# Altium footprint library atmel.PCBLIB: 60 footprints (part 1 of 4)
Each footprint in its own frame and in the unit in brackets; x right, y up, seen from the top. Pads: shape width x height; smd on the part's side, far side on the other; paste and mask are expansions set on the pad; w line width, h text height; cw(c..) or ccw(c..) is an arc to the next point about the centre after c.
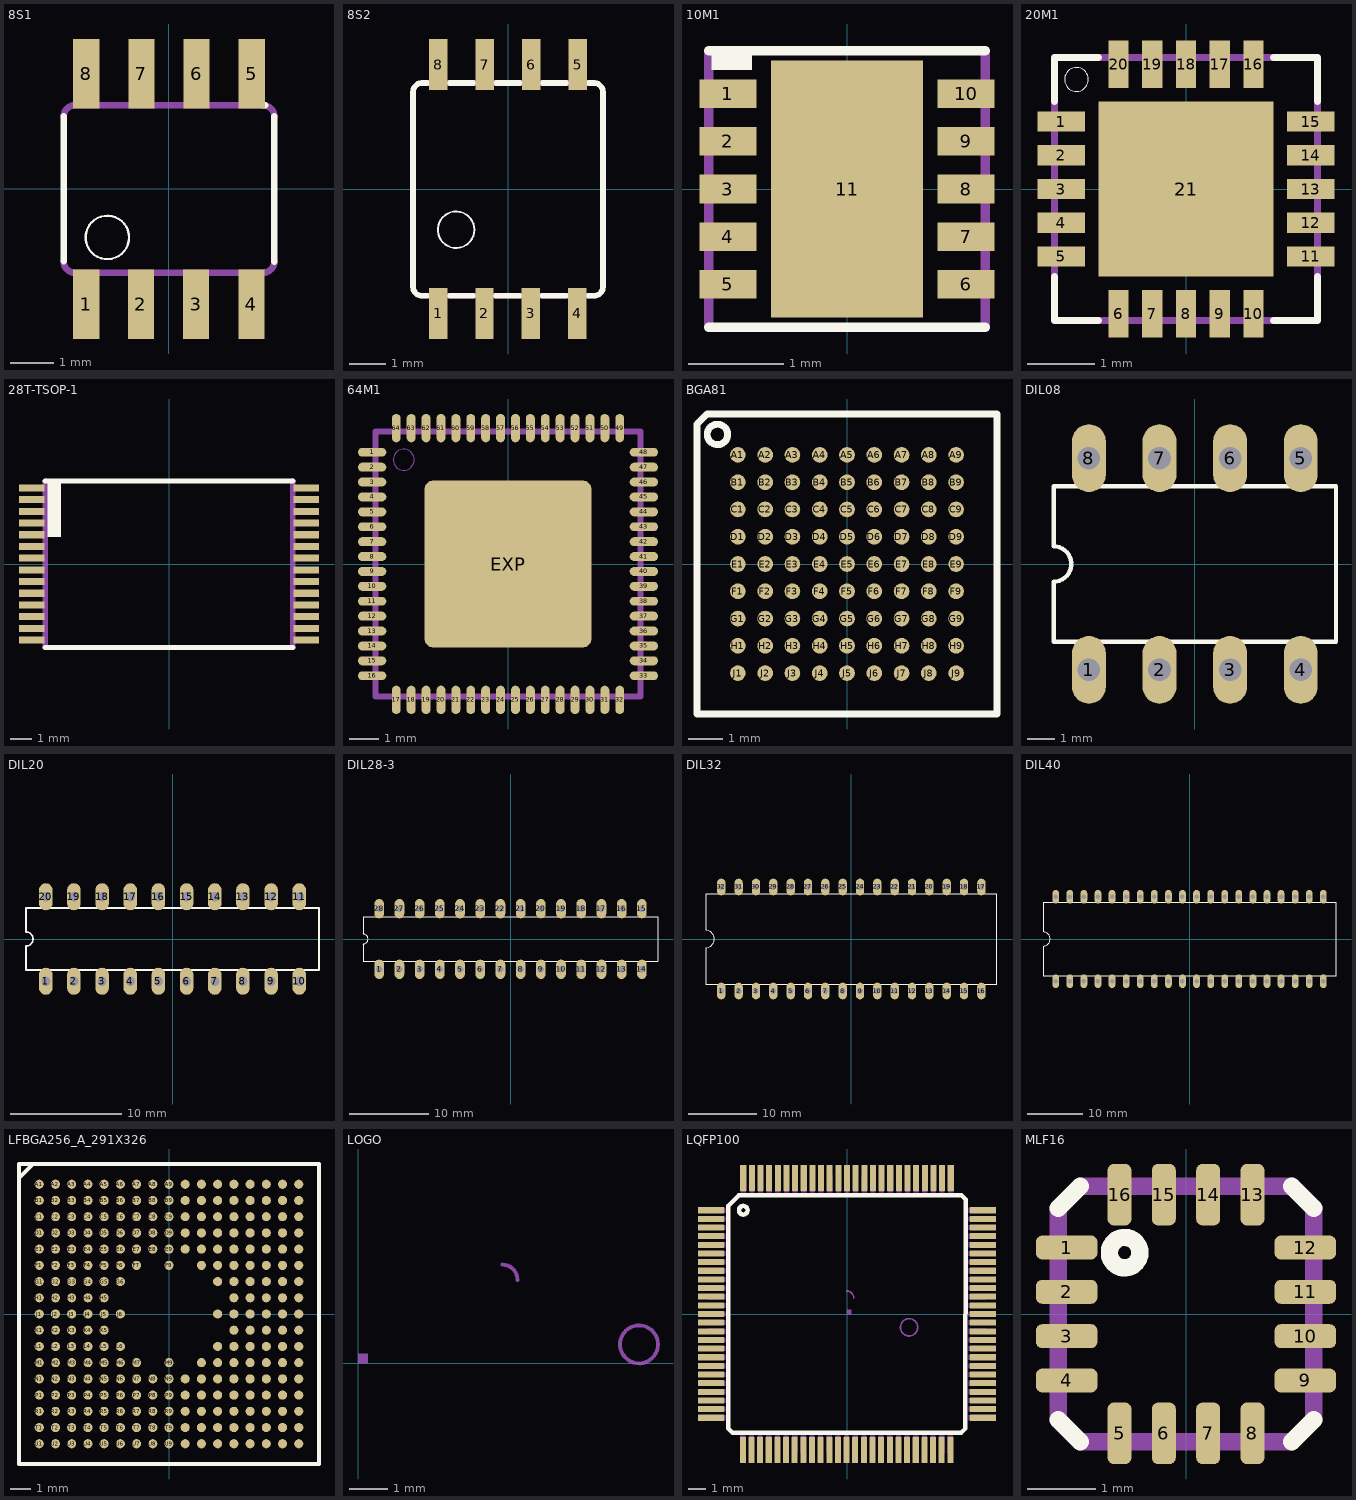
[diagram p0: the footprints below, top view; thin cyan lines are the x and y axes]

## 8S1 [mm]
pads (8):
  rect 0.6x1.6 smd: 1(-1.905,-2.654) 2(-0.645,-2.654) 3(0.625,-2.654) 4(1.895,-2.654) 5(1.905,2.654) 6(0.635,2.654) 7(-0.635,2.654) 8(-1.905,2.654)
Top Overlay:
  circle w0.051: c-1.42,-1.115 r0.5
  lines w0.152: -2.425,-1.665 -2.425,1.675 ; 2.185,1.925 2.21,1.925 ; 2.425,-1.675 2.425,1.675
Mechanical 16:
  rectangle: -2.08,1.975 -1.73,3.075
  rectangle: -0.81,1.975 -0.46,3.075
  rectangle: 0.46,1.975 0.81,3.075
  rectangle: 1.73,1.975 2.08,3.075
  rectangle: 1.72,-3.075 2.07,-1.975
  rectangle: 0.45,-3.075 0.8,-1.975
  rectangle: -0.82,-3.075 -0.47,-1.975
  rectangle: -2.08,-3.075 -1.73,-1.975
  lines w0.152: -2.425,-1.675 ccw(c-2.175,-1.675) -2.175,-1.925 ; -2.425,1.675 cw(c-2.175,1.675) -2.175,1.925 ; -2.165,-1.925 2.185,-1.925 ; -2.165,1.925 2.185,1.925 ; -1.59,1.925 -0.95,1.925 ; -0.33,-1.925 0.32,-1.925 ; 0.94,-1.925 1.59,-1.925 ; 0.95,1.925 1.59,1.925 ; 2.155,-1.925 2.185,-1.925 ; 2.175,-1.925 ccw(c2.175,-1.675) 2.425,-1.675 ; 2.175,1.925 cw(c2.175,1.675) 2.425,1.675 ; 2.2,-1.925 2.185,-1.925

## 8S2 [mm]
pads (8):
  rect 0.5x1.4 smd: 1(-1.905,-3.404) 2(-0.645,-3.404) 3(0.625,-3.404) 4(1.895,-3.404) 5(1.905,3.404) 6(0.635,3.404) 7(-0.635,3.404) 8(-1.905,3.404)
Top Overlay:
  circle w0.051: c-1.42,-1.115 r0.5
  lines w0.152: -2.6,-2.675 ccw(c-2.35,-2.675) -2.35,-2.925 ; -2.6,-2.665 -2.6,2.65 cw(c-2.35,2.65) -2.35,2.9 ; -2.34,-2.925 -2.21,-2.925 ; -2.34,2.9 -2.21,2.9 ; -1.59,-2.925 -0.95,-2.925 ; -1.59,2.9 -0.95,2.9 ; -0.33,-2.925 0.32,-2.925 ; -0.32,2.9 0.32,2.9 ; 0.94,-2.925 1.59,-2.925 ; 0.95,2.9 1.59,2.9 ; 2.2,-2.925 2.33,-2.925 ; 2.21,2.9 2.36,2.9 ; 2.35,-2.925 ccw(c2.35,-2.675) 2.6,-2.675 2.6,2.65 ccw(c2.35,2.65) 2.35,2.9
Mechanical 16:
  rectangle: -2.08,2.95 -1.73,3.85
  rectangle: -0.81,2.95 -0.46,3.85
  rectangle: 0.46,2.95 0.81,3.85
  rectangle: 1.73,2.95 2.08,3.85
  rectangle: 1.72,-3.85 2.07,-2.95
  rectangle: 0.45,-3.85 0.8,-2.95
  rectangle: -0.82,-3.85 -0.47,-2.95
  rectangle: -2.08,-3.85 -1.73,-2.95
  lines w0.152: -2.34,-2.925 2.36,-2.925 ; -2.34,2.9 2.36,2.9

## 10M1 [mm]
pads (11):
  rect 0.6x0.3 smd: 1(-1.25,1) 2(-1.25,0.5) 3(-1.25,0) 4(-1.25,-0.5) 5(-1.25,-1) 6(1.25,-1) 7(1.25,-0.5) 8(1.25,0) 9(1.25,0.5) 10(1.25,1)
  rect 1.6x2.7 smd: 11(0,0)
Top Overlay:
  rectangle: -1.425,1.25 -1,1.425
  lines w0.102: -1.45,-1.45 1.45,-1.45 ; -1.45,1.45 1.45,1.45
Top Paste:
  rectangle: -1.525,0.875 -0.975,1.125
  rectangle: -1.525,0.375 -0.975,0.625
  rectangle: -1.525,-0.125 -0.975,0.125
  rectangle: -1.525,-0.625 -0.975,-0.375
  rectangle: -1.525,-1.125 -0.975,-0.875
  region: 1.525,-0.875 0.975,-0.875 0.975,-1.125 1.525,-1.125
  region: 1.525,-0.375 0.975,-0.375 0.975,-0.625 1.525,-0.625
  region: 1.525,0.125 0.975,0.125 0.975,-0.125 1.525,-0.125
  region: 1.525,0.625 0.975,0.625 0.975,0.375 1.525,0.375
  region: 1.525,1.125 0.975,1.125 0.975,0.875 1.525,0.875
  region: 0,0 0.254,0 0.254,0.254 0,0.254
Top Solder:
  rectangle: -1.575,0.825 -0.925,1.175
  rectangle: -1.575,0.325 -0.925,0.675
  rectangle: -1.575,-0.175 -0.925,0.175
  rectangle: -1.575,-0.675 -0.925,-0.325
  rectangle: -1.575,-1.175 -0.925,-0.825
  region: 1.575,-0.825 0.925,-0.825 0.925,-1.175 1.575,-1.175
  region: 1.575,-0.325 0.925,-0.325 0.925,-0.675 1.575,-0.675
  region: 1.575,0.175 0.925,0.175 0.925,-0.175 1.575,-0.175
  region: 1.575,0.675 0.925,0.675 0.925,0.325 1.575,0.325
  region: 1.575,1.175 0.925,1.175 0.925,0.825 1.575,0.825
  region: 0,0 0.254,0 0.254,0.254 0,0.254
Mechanical 16:
  lines w0.102: -1.45,-1.45 -1.45,1.45 ; 1.45,-1.45 1.45,1.45

## 20M1 [mm]
pads (21):
  rect 0.7x0.3 smd: 1(-1.85,1) 2(-1.85,0.5) 3(-1.85,0) 4(-1.85,-0.5) 5(-1.85,-1) 11(1.85,-1) 12(1.85,-0.5) 13(1.85,0) 14(1.85,0.5) 15(1.85,1)
  rect 0.3x0.7 smd: 6(-1,-1.85) 7(-0.5,-1.85) 8(0,-1.85) 9(0.5,-1.85) 10(1,-1.85) 16(1,1.85) 17(0.5,1.85) 18(0,1.85) 19(-0.5,1.85) 20(-1,1.85)
  rect 2.6x2.6 smd: 21(0,0)
Top Overlay:
  circle w0: c-1.625,1.625 r0.177
  lines w0.102: -1.95,-1.3 -1.95,-1.95 -1.3,-1.95 ; -1.95,1.3 -1.95,1.95 -1.3,1.95 ; 1.3,-1.95 1.95,-1.95 1.95,-1.3 ; 1.3,1.95 1.95,1.95 1.95,1.3
Top Paste:
  rectangle: -2.175,0.875 -1.525,1.125
  rectangle: -2.175,0.375 -1.525,0.625
  rectangle: -2.175,-0.125 -1.525,0.125
  rectangle: -2.175,-0.625 -1.525,-0.375
  rectangle: -2.175,-1.125 -1.525,-0.875
  region: -0.875,-2.175 -0.875,-1.525 -1.125,-1.525 -1.125,-2.175
  region: -0.375,-2.175 -0.375,-1.525 -0.625,-1.525 -0.625,-2.175
  region: 0.125,-2.175 0.125,-1.525 -0.125,-1.525 -0.125,-2.175
  region: 0.625,-2.175 0.625,-1.525 0.375,-1.525 0.375,-2.175
  region: 1.125,-2.175 1.125,-1.525 0.875,-1.525 0.875,-2.175
  region: 2.175,-0.875 1.525,-0.875 1.525,-1.125 2.175,-1.125
  region: 2.175,-0.375 1.525,-0.375 1.525,-0.625 2.175,-0.625
  region: 2.175,0.125 1.525,0.125 1.525,-0.125 2.175,-0.125
  region: 2.175,0.625 1.525,0.625 1.525,0.375 2.175,0.375
  region: 2.175,1.125 1.525,1.125 1.525,0.875 2.175,0.875
  region: 0.875,2.175 0.875,1.525 1.125,1.525 1.125,2.175
  region: 0.375,2.175 0.375,1.525 0.625,1.525 0.625,2.175
  region: -0.125,2.175 -0.125,1.525 0.125,1.525 0.125,2.175
  region: -0.625,2.175 -0.625,1.525 -0.375,1.525 -0.375,2.175
  region: -1.125,2.175 -1.125,1.525 -0.875,1.525 -0.875,2.175
  rectangle: -1.125,-1.125 1.125,1.125
Top Solder:
  rectangle: -2.225,0.825 -1.475,1.175
  rectangle: -2.225,0.325 -1.475,0.675
  rectangle: -2.225,-0.175 -1.475,0.175
  rectangle: -2.225,-0.675 -1.475,-0.325
  rectangle: -2.225,-1.175 -1.475,-0.825
  region: -0.825,-2.225 -0.825,-1.475 -1.175,-1.475 -1.175,-2.225
  region: -0.325,-2.225 -0.325,-1.475 -0.675,-1.475 -0.675,-2.225
  region: 0.175,-2.225 0.175,-1.475 -0.175,-1.475 -0.175,-2.225
  region: 0.675,-2.225 0.675,-1.475 0.325,-1.475 0.325,-2.225
  region: 1.175,-2.225 1.175,-1.475 0.825,-1.475 0.825,-2.225
  region: 2.225,-0.825 1.475,-0.825 1.475,-1.175 2.225,-1.175
  region: 2.225,-0.325 1.475,-0.325 1.475,-0.675 2.225,-0.675
  region: 2.225,0.175 1.475,0.175 1.475,-0.175 2.225,-0.175
  region: 2.225,0.675 1.475,0.675 1.475,0.325 2.225,0.325
  region: 2.225,1.175 1.475,1.175 1.475,0.825 2.225,0.825
  region: 0.825,2.225 0.825,1.475 1.175,1.475 1.175,2.225
  region: 0.325,2.225 0.325,1.475 0.675,1.475 0.675,2.225
  region: -0.175,2.225 -0.175,1.475 0.175,1.475 0.175,2.225
  region: -0.675,2.225 -0.675,1.475 -0.325,1.475 -0.325,2.225
  region: -1.175,2.225 -1.175,1.475 -0.825,1.475 -0.825,2.225
  rectangle: -1.325,-1.325 1.325,1.325
Mechanical 16:
  lines w0.102: -1.95,-1.95 1.95,-1.95 1.95,1.95 -1.95,1.95 -1.95,-1.95

## 28T-TSOP-1 [mm]
pads (28):
  rect 1.2x0.33 smd: 1(-6.45,3.575) 2(-6.45,3.025) 3(-6.45,2.475) 4(-6.45,1.925) 5(-6.45,1.375) 6(-6.45,0.825) 7(-6.45,0.275) 8(-6.45,-0.275) 9(-6.45,-0.825) 10(-6.45,-1.375) 11(-6.45,-1.925) 12(-6.45,-2.475) 13(-6.45,-3.025) 14(-6.45,-3.575) 15(6.45,-3.575) 16(6.45,-3.025) 17(6.45,-2.475) 18(6.45,-1.925) 19(6.45,-1.375) 20(6.45,-0.825) 21(6.45,-0.275) 22(6.45,0.275) 23(6.45,0.825) 24(6.45,1.375) 25(6.45,1.925) 26(6.45,2.475) 27(6.45,3.025) 28(6.45,3.575)
Top Overlay:
  rectangle: -5.715,1.27 -5.08,3.81
  lines w0.254: -5.825,-3.925 5.825,-3.925 ; -5.825,3.9 5.825,3.9
Mechanical 16:
  rectangle: -6.8,3.45 -5.968,3.7
  rectangle: -6.8,2.9 -5.968,3.15
  rectangle: -6.8,2.35 -5.968,2.6
  rectangle: -6.8,1.8 -5.968,2.05
  rectangle: -6.8,1.25 -5.968,1.5
  rectangle: -6.8,0.7 -5.968,0.95
  rectangle: -6.8,0.15 -5.968,0.4
  rectangle: -6.8,-0.4 -5.968,-0.15
  rectangle: -6.8,-0.95 -5.968,-0.7
  rectangle: -6.8,-1.5 -5.968,-1.25
  rectangle: -6.8,-2.05 -5.968,-1.8
  rectangle: -6.8,-2.6 -5.968,-2.35
  rectangle: -6.8,-3.15 -5.968,-2.9
  rectangle: -6.8,-3.7 -5.968,-3.45
  region: 6.8,-3.45 5.968,-3.45 5.968,-3.7 6.8,-3.7
  region: 6.8,-2.9 5.968,-2.9 5.968,-3.15 6.8,-3.15
  region: 6.8,-2.35 5.968,-2.35 5.968,-2.6 6.8,-2.6
  region: 6.8,-1.8 5.968,-1.8 5.968,-2.05 6.8,-2.05
  region: 6.8,-1.25 5.968,-1.25 5.968,-1.5 6.8,-1.5
  region: 6.8,-0.7 5.968,-0.7 5.968,-0.95 6.8,-0.95
  region: 6.8,-0.15 5.968,-0.15 5.968,-0.4 6.8,-0.4
  region: 6.8,0.4 5.968,0.4 5.968,0.15 6.8,0.15
  region: 6.8,0.95 5.968,0.95 5.968,0.7 6.8,0.7
  region: 6.8,1.5 5.968,1.5 5.968,1.25 6.8,1.25
  region: 6.8,2.05 5.968,2.05 5.968,1.8 6.8,1.8
  region: 6.8,2.6 5.968,2.6 5.968,2.35 6.8,2.35
  region: 6.8,3.15 5.968,3.15 5.968,2.9 6.8,2.9
  region: 6.8,3.7 5.968,3.7 5.968,3.45 6.8,3.45
  lines w0.254: -5.825,-3.925 -5.825,3.9 ; 5.825,-3.925 5.825,3.9

## 64M1 [mm]
pads (65):
  rrect100% 0.95x0.3 smd: 1(-4.56,3.75) 2(-4.56,3.25) 3(-4.56,2.75) 4(-4.56,2.25) 5(-4.56,1.75) 6(-4.56,1.25) 7(-4.56,0.75) 8(-4.56,0.25) 9(-4.56,-0.25) 10(-4.56,-0.75) 11(-4.56,-1.25) 12(-4.56,-1.75) 13(-4.56,-2.25) 14(-4.56,-2.75) 15(-4.56,-3.25) 16(-4.56,-3.75) 33(4.56,-3.75) 34(4.56,-3.25) 35(4.56,-2.75) 36(4.56,-2.25) 37(4.56,-1.75) 38(4.56,-1.25) 39(4.56,-0.75) 40(4.56,-0.25) 41(4.56,0.25) 42(4.56,0.75) 43(4.56,1.25) 44(4.56,1.75) 45(4.56,2.25) 46(4.56,2.75) 47(4.56,3.25) 48(4.56,3.75)
  rrect100% 0.3x0.95 smd: 17(-3.75,-4.56) 18(-3.25,-4.56) 19(-2.75,-4.56) 20(-2.25,-4.56) 21(-1.75,-4.56) 22(-1.25,-4.56) 23(-0.75,-4.56) 24(-0.25,-4.56) 25(0.25,-4.56) 26(0.75,-4.56) 27(1.25,-4.56) 28(1.75,-4.56) 29(2.25,-4.56) 30(2.75,-4.56) 31(3.25,-4.56) 32(3.75,-4.56) 49(3.75,4.56) 50(3.25,4.56) 51(2.75,4.56) 52(2.25,4.56) 53(1.75,4.56) 54(1.25,4.56) 55(0.75,4.56) 56(0.25,4.56) 57(-0.25,4.56) 58(-0.75,4.56) 59(-1.25,4.56) 60(-1.75,4.56) 61(-2.25,4.56) 62(-2.75,4.56) 63(-3.25,4.56) 64(-3.75,4.56)
  rrect10% 5.6x5.6 smd: EXP(0,0)
Mechanical 16:
  circle w0: c-3.5,3.5 r0.354
  lines w0.203: -4.448,-4.448 4.448,-4.448 4.448,4.448 -4.448,4.448 -4.448,-4.448

## BGA81 [mm]
pads (81):
  rrect100% 0.46x0.46 smd: A1(-3.2,3.2) A2(-2.4,3.2) A3(-1.6,3.2) A4(-0.8,3.2) A5(0,3.2) A6(0.8,3.2) A7(1.6,3.2) A8(2.4,3.2) A9(3.2,3.2) B1(-3.2,2.4) B2(-2.4,2.4) B3(-1.6,2.4) B4(-0.8,2.4) B5(0,2.4) B6(0.8,2.4) B7(1.6,2.4) B8(2.4,2.4) B9(3.2,2.4) C1(-3.2,1.6) C2(-2.4,1.6) C3(-1.6,1.6) C4(-0.8,1.6) C5(0,1.6) C6(0.8,1.6) C7(1.6,1.6) C8(2.4,1.6) C9(3.2,1.6) D1(-3.2,0.8) D2(-2.4,0.8) D3(-1.6,0.8) D4(-0.8,0.8) D5(0,0.8) D6(0.8,0.8) D7(1.6,0.8) D8(2.4,0.8) D9(3.2,0.8) E1(-3.2,0) E2(-2.4,0) E3(-1.6,0) E4(-0.8,0) E5(0,0) E6(0.8,0) E7(1.6,0) E8(2.4,0) E9(3.2,0) F1(-3.2,-0.8) F2(-2.4,-0.8) F3(-1.6,-0.8) F4(-0.8,-0.8) F5(0,-0.8) F6(0.8,-0.8) F7(1.6,-0.8) F8(2.4,-0.8) F9(3.2,-0.8) G1(-3.2,-1.6) G2(-2.4,-1.6) G3(-1.6,-1.6) G4(-0.8,-1.6) G5(0,-1.6) G6(0.8,-1.6) G7(1.6,-1.6) G8(2.4,-1.6) G9(3.2,-1.6) H1(-3.2,-2.4) H2(-2.4,-2.4) H3(-1.6,-2.4) H4(-0.8,-2.4) H5(0,-2.4) H6(0.8,-2.4) H7(1.6,-2.4) H8(2.4,-2.4) H9(3.2,-2.4) J1(-3.2,-3.2) J2(-2.4,-3.2) J3(-1.6,-3.2) J4(-0.8,-3.2) J5(0,-3.2) J6(0.8,-3.2) J7(1.6,-3.2) J8(2.4,-3.2) J9(3.2,-3.2)
Top Overlay:
  circle w0.203: c-3.8,3.8 r0.3
  lines w0.203: -4.4,-4.4 4.4,-4.4 4.4,4.4 -4.1,4.4 -4.4,4.1 -4.4,-4.4

## DIL08 [mil]
pads (8):
  oval 48x96 hole 32: 1(-150,-150) 2(-50,-150) 3(50,-150) 4(150,-150) 5(150,150) 6(50,150) 7(-50,150) 8(-150,150)
Top Overlay:
  lines w6: -200,-110 -200,-25 ccw(c-200,0) -200,25 -200,110 200,110 200,-110 -200,-110

## DIL20 [mil]
pads (20):
  oval 48x96 hole 32: 1(-450,-150) 2(-350,-150) 3(-250,-150) 4(-150,-150) 5(-50,-150) 6(50,-150) 7(150,-150) 8(250,-150) 9(350,-150) 10(450,-150) 11(450,150) 12(350,150) 13(250,150) 14(150,150) 15(50,150) 16(-50,150) 17(-150,150) 18(-250,150) 19(-350,150) 20(-450,150)
Top Overlay:
  lines w6: -520,-110 -520,-25 ccw(c-520,0) -520,25 -520,110 520,110 520,-110 -520,-110

## DIL28-3 [mil]
pads (28):
  oval 48x96 hole 32: 1(-650,-150) 2(-550,-150) 3(-450,-150) 4(-350,-150) 5(-250,-150) 6(-150,-150) 7(-50,-150) 8(50,-150) 9(150,-150) 10(250,-150) 11(350,-150) 12(450,-150) 13(550,-150) 14(650,-150) 15(650,150) 16(550,150) 17(450,150) 18(350,150) 19(250,150) 20(150,150) 21(50,150) 22(-50,150) 23(-150,150) 24(-250,150) 25(-350,150) 26(-450,150) 27(-550,150) 28(-650,150)
Top Overlay:
  lines w6: -730,-110 -730,-25 ccw(c-730,0) -730,25 -730,110 730,110 730,-110 -730,-110

## DIL32 [mil]
pads (32):
  oval 48x96 hole 32: 1(-750,-300) 2(-650,-300) 3(-550,-300) 4(-450,-300) 5(-350,-300) 6(-250,-300) 7(-150,-300) 8(-50,-300) 9(50,-300) 10(150,-300) 11(250,-300) 12(350,-300) 13(450,-300) 14(550,-300) 15(650,-300) 16(750,-300) 17(750,300) 18(650,300) 19(550,300) 20(450,300) 21(350,300) 22(250,300) 23(150,300) 24(50,300) 25(-50,300) 26(-150,300) 27(-250,300) 28(-350,300) 29(-450,300) 30(-550,300) 31(-650,300) 32(-750,300)
Top Overlay:
  lines w6: -840,-260 -840,-50 ccw(c-840,0) -840,50 -840,260 840,260 840,-260 -840,-260

## DIL40 [mil]
pads (40):
  oval 48x96 hole 32: 1(-950,-300) 2(-850,-300) 3(-750,-300) 4(-650,-300) 5(-550,-300) 6(-450,-300) 7(-350,-300) 8(-250,-300) 9(-150,-300) 10(-50,-300) 11(50,-300) 12(150,-300) 13(250,-300) 14(350,-300) 15(450,-300) 16(550,-300) 17(650,-300) 18(750,-300) 19(850,-300) 20(950,-300) 21(950,300) 22(850,300) 23(750,300) 24(650,300) 25(550,300) 26(450,300) 27(350,300) 28(250,300) 29(150,300) 30(50,300) 31(-50,300) 32(-150,300) 33(-250,300) 34(-350,300) 35(-450,300) 36(-550,300) 37(-650,300) 38(-750,300) 39(-850,300) 40(-950,300)
Top Overlay:
  lines w6: -1040,-260 -1040,-50 ccw(c-1040,0) -1040,50 -1040,260 1040,260 1040,-260 -1040,-260

## LFBGA256_A_291X326 [mm]
pads (256):
  rrect100% 0.45x0.45 smd: A1(-6.4,6.4) A2(-5.6,6.4) A3(-4.8,6.4) A4(-4,6.4) A5(-3.2,6.4) A6(-2.4,6.4) A7(-1.6,6.4) A8(-0.8,6.4) A9(0,6.4) A10(0.8,6.4) A11(1.6,6.4) A12(2.4,6.4) A13(3.2,6.4) A14(4,6.4) A15(4.8,6.4) A16(5.6,6.4) A17(6.4,6.4) B1(-6.4,5.6) B2(-5.6,5.6) B3(-4.8,5.6) B4(-4,5.6) B5(-3.2,5.6) B6(-2.4,5.6) B7(-1.6,5.6) B8(-0.8,5.6) B9(0,5.6) B10(0.8,5.6) B11(1.6,5.6) B12(2.4,5.6) B13(3.2,5.6) B14(4,5.6) B15(4.8,5.6) B16(5.6,5.6) B17(6.4,5.6) C1(-6.4,4.8) C2(-5.6,4.8) C3(-4.8,4.8) C4(-4,4.8) C5(-3.2,4.8) C6(-2.4,4.8) C7(-1.6,4.8) C8(-0.8,4.8) C9(0,4.8) C10(0.8,4.8) C11(1.6,4.8) C12(2.4,4.8) C13(3.2,4.8) C14(4,4.8) C15(4.8,4.8) C16(5.6,4.8) C17(6.4,4.8) D1(-6.4,4) D2(-5.6,4) D3(-4.8,4) D4(-4,4) D5(-3.2,4) D6(-2.4,4) D7(-1.6,4) D8(-0.8,4) D9(0,4) D10(0.8,4) D11(1.6,4) D12(2.4,4) D13(3.2,4) D14(4,4) D15(4.8,4) D16(5.6,4) D17(6.4,4) E1(-6.4,3.2) E2(-5.6,3.2) E3(-4.8,3.2) E4(-4,3.2) E5(-3.2,3.2) E6(-2.4,3.2) E7(-1.6,3.2) E8(-0.8,3.2) E9(0,3.2) E10(0.8,3.2) E11(1.6,3.2) E12(2.4,3.2) E13(3.2,3.2) E14(4,3.2) E15(4.8,3.2) E16(5.6,3.2) E17(6.4,3.2) F1(-6.4,2.4) F2(-5.6,2.4) F3(-4.8,2.4) F4(-4,2.4) F5(-3.2,2.4) F6(-2.4,2.4) F7(-1.6,2.4) F9(0,2.4) F11(1.6,2.4) F12(2.4,2.4) F13(3.2,2.4) F14(4,2.4) F15(4.8,2.4) F16(5.6,2.4) F17(6.4,2.4) G1(-6.4,1.6) G2(-5.6,1.6) G3(-4.8,1.6) G4(-4,1.6) G5(-3.2,1.6) G6(-2.4,1.6) G12(2.4,1.6) G13(3.2,1.6) G14(4,1.6) G15(4.8,1.6) G16(5.6,1.6) G17(6.4,1.6) H1(-6.4,0.8) H2(-5.6,0.8) H3(-4.8,0.8) H4(-4,0.8) H5(-3.2,0.8) H13(3.2,0.8) H14(4,0.8) H15(4.8,0.8) H16(5.6,0.8) H17(6.4,0.8) J1(-6.4,0) J2(-5.6,0) J3(-4.8,0) J4(-4,0) J5(-3.2,0) J6(-2.4,0) J12(2.4,0) J13(3.2,0) J14(4,0) J15(4.8,0) J16(5.6,0) J17(6.4,0) K1(-6.4,-0.8) K2(-5.6,-0.8) K3(-4.8,-0.8) K4(-4,-0.8) K5(-3.2,-0.8) K13(3.2,-0.8) K14(4,-0.8) K15(4.8,-0.8) K16(5.6,-0.8) K17(6.4,-0.8) L1(-6.4,-1.6) L2(-5.6,-1.6) L3(-4.8,-1.6) L4(-4,-1.6) L5(-3.2,-1.6) L6(-2.4,-1.6) L12(2.4,-1.6) L13(3.2,-1.6) L14(4,-1.6) L15(4.8,-1.6) L16(5.6,-1.6) L17(6.4,-1.6) M1(-6.4,-2.4) M2(-5.6,-2.4) M3(-4.8,-2.4) M4(-4,-2.4) M5(-3.2,-2.4) M6(-2.4,-2.4) M7(-1.6,-2.4) M9(0,-2.4) M11(1.6,-2.4) M12(2.4,-2.4) M13(3.2,-2.4) M14(4,-2.4) M15(4.8,-2.4) M16(5.6,-2.4) M17(6.4,-2.4) N1(-6.4,-3.2) N2(-5.6,-3.2) N3(-4.8,-3.2) N4(-4,-3.2) N5(-3.2,-3.2) N6(-2.4,-3.2) N7(-1.6,-3.2) N8(-0.8,-3.2) N9(0,-3.2) N10(0.8,-3.2) N11(1.6,-3.2) N12(2.4,-3.2) N13(3.2,-3.2) N14(4,-3.2) N15(4.8,-3.2) N16(5.6,-3.2) N17(6.4,-3.2) P1(-6.4,-4) P2(-5.6,-4) P3(-4.8,-4) P4(-4,-4) P5(-3.2,-4) P6(-2.4,-4) P7(-1.6,-4) P8(-0.8,-4) P9(0,-4) P10(0.8,-4) P11(1.6,-4) P12(2.4,-4) P13(3.2,-4) P14(4,-4) P15(4.8,-4) P16(5.6,-4) P17(6.4,-4) R1(-6.4,-4.8) R2(-5.6,-4.8) R3(-4.8,-4.8) R4(-4,-4.8) R5(-3.2,-4.8) R6(-2.4,-4.8) R7(-1.6,-4.8) R8(-0.8,-4.8) R9(0,-4.8) R10(0.8,-4.8) R11(1.6,-4.8) R12(2.4,-4.8) R13(3.2,-4.8) R14(4,-4.8) R15(4.8,-4.8) R16(5.6,-4.8) R17(6.4,-4.8) T1(-6.4,-5.6) T2(-5.6,-5.6) T3(-4.8,-5.6) T4(-4,-5.6) T5(-3.2,-5.6) T6(-2.4,-5.6) T7(-1.6,-5.6) T8(-0.8,-5.6) T9(0,-5.6) T10(0.8,-5.6) T11(1.6,-5.6) T12(2.4,-5.6) T13(3.2,-5.6) T14(4,-5.6) T15(4.8,-5.6) T16(5.6,-5.6) T17(6.4,-5.6) U1(-6.4,-6.4) U2(-5.6,-6.4) U3(-4.8,-6.4) U4(-4,-6.4) U5(-3.2,-6.4) U6(-2.4,-6.4) U7(-1.6,-6.4) U8(-0.8,-6.4) U9(0,-6.4) U10(0.8,-6.4) U11(1.6,-6.4) U12(2.4,-6.4) U13(3.2,-6.4) U14(4,-6.4) U15(4.8,-6.4) U16(5.6,-6.4) U17(6.4,-6.4)
Top Overlay:
  lines w0.203: -7.399,6.7 -7.399,7.399 -6.7,7.399 ; -7.399,6.7 -7.399,-7.399 7.399,-7.399 7.399,7.399 -6.7,7.399 ; -7.399,6.7 -6.7,7.399
Top Solder:
  drawing of 256 lines, arcs and shapes, not listed

## LOGO [mm]
Mechanical 16:
  circle w0.102: c7.4,0.5 r0.5
  region: 0,0 0.254,0 0.254,0.254 0,0.254
  region: 0,0 0.254,0 0.254,0.254 0,0.254
  region: 0,0 0.254,0 0.254,0.254 0,0.254
  region: 0,0 0.254,0 0.254,0.254 0,0.254
  region: 0,0 0.254,0 0.254,0.254 0,0.254
  region: 0,0 0.254,0 0.254,0.254 0,0.254
  lines w0.102: 3.8,2.6 cw(c3.8,2.2) 4.2,2.2
  text "R" at 7.2,0.2 h0.94

## LQFP100 [mm]
pads (100):
  rect 1.5x0.35 smd: 1(-7.875,6) 2(-7.875,5.5) 3(-7.875,5) 4(-7.875,4.5) 5(-7.875,4) 6(-7.875,3.5) 7(-7.875,3) 8(-7.875,2.5) 9(-7.875,2) 10(-7.875,1.5) 11(-7.875,1) 12(-7.875,0.5) 13(-7.875,0) 14(-7.875,-0.5) 15(-7.875,-1) 16(-7.875,-1.5) 17(-7.875,-2) 18(-7.875,-2.5) 19(-7.875,-3) 20(-7.875,-3.5) 21(-7.875,-4) 22(-7.875,-4.5) 23(-7.875,-5) 24(-7.875,-5.5) 25(-7.875,-6) 51(7.875,-6) 52(7.875,-5.5) 53(7.875,-5) 54(7.875,-4.5) 55(7.875,-4) 56(7.875,-3.5) 57(7.875,-3) 58(7.875,-2.5) 59(7.875,-2) 60(7.875,-1.5) 61(7.875,-1) 62(7.875,-0.5) 63(7.875,0) 64(7.875,0.5) 65(7.875,1) 66(7.875,1.5) 67(7.875,2) 68(7.875,2.5) 69(7.875,3) 70(7.875,3.5) 71(7.875,4) 72(7.875,4.5) 73(7.875,5) 74(7.875,5.5) 75(7.875,6)
  rect 0.35x1.5 smd: 26(-6.025,-7.875) 27(-5.525,-7.875) 28(-5.025,-7.875) 29(-4.525,-7.875) 30(-4.025,-7.875) 31(-3.525,-7.875) 32(-3.025,-7.875) 33(-2.525,-7.875) 34(-2.025,-7.875) 35(-1.525,-7.875) 36(-1.025,-7.875) 37(-0.525,-7.875) 38(-0.025,-7.875) 39(0.475,-7.875) 40(0.975,-7.875) 41(1.475,-7.875) 42(1.975,-7.875) 43(2.475,-7.875) 44(2.975,-7.875) 45(3.475,-7.875) 46(3.975,-7.875) 47(4.475,-7.875) 48(4.975,-7.875) 49(5.475,-7.875) 50(5.975,-7.875) 76(6,7.875) 77(5.5,7.875) 78(5,7.875) 79(4.5,7.875) 80(4,7.875) 81(3.5,7.875) 82(3,7.875) 83(2.5,7.875) 84(2,7.875) 85(1.5,7.875) 86(1,7.875) 87(0.5,7.875) 88(0,7.875) 89(-0.5,7.875) 90(-1,7.875) 91(-1.5,7.875) 92(-2,7.875) 93(-2.5,7.875) 94(-3,7.875) 95(-3.5,7.875) 96(-4,7.875) 97(-4.5,7.875) 98(-5,7.875) 99(-5.5,7.875) 100(-6,7.875)
Top Overlay:
  circle w0.254: c-6,6 r0.25
  lines w0.254: -6.875,-6.625 -6.625,-6.875 6.6,-6.875 6.85,-6.625 6.875,6.625 6.625,6.875 -6.25,6.875 -6.875,6.25 -6.875,-6.625
Top Paste:
  rectangle: -8.6,5.85 -7.15,6.15
  rectangle: -8.6,5.35 -7.15,5.65
  rectangle: -8.6,4.85 -7.15,5.15
  rectangle: -8.6,4.35 -7.15,4.65
  rectangle: -8.6,3.85 -7.15,4.15
  rectangle: -8.6,3.35 -7.15,3.65
  rectangle: -8.6,2.85 -7.15,3.15
  rectangle: -8.6,2.35 -7.15,2.65
  rectangle: -8.6,1.85 -7.15,2.15
  rectangle: -8.6,1.35 -7.15,1.65
  rectangle: -8.6,0.85 -7.15,1.15
  rectangle: -8.6,0.35 -7.15,0.65
  rectangle: -8.6,-0.15 -7.15,0.15
  rectangle: -8.6,-0.65 -7.15,-0.35
  rectangle: -8.6,-1.15 -7.15,-0.85
  rectangle: -8.6,-1.65 -7.15,-1.35
  rectangle: -8.6,-2.15 -7.15,-1.85
  rectangle: -8.6,-2.65 -7.15,-2.35
  rectangle: -8.6,-3.15 -7.15,-2.85
  rectangle: -8.6,-3.65 -7.15,-3.35
  rectangle: -8.6,-4.15 -7.15,-3.85
  rectangle: -8.6,-4.65 -7.15,-4.35
  rectangle: -8.6,-5.15 -7.15,-4.85
  rectangle: -8.6,-5.65 -7.15,-5.35
  rectangle: -8.6,-6.15 -7.15,-5.85
  region: -5.85,-8.6 -5.85,-7.15 -6.15,-7.15 -6.15,-8.6
  region: -5.35,-8.6 -5.35,-7.15 -5.65,-7.15 -5.65,-8.6
  region: -4.85,-8.6 -4.85,-7.15 -5.15,-7.15 -5.15,-8.6
  region: -4.35,-8.6 -4.35,-7.15 -4.65,-7.15 -4.65,-8.6
  region: -3.85,-8.6 -3.85,-7.15 -4.15,-7.15 -4.15,-8.6
  region: -3.35,-8.6 -3.35,-7.15 -3.65,-7.15 -3.65,-8.6
  region: -2.85,-8.6 -2.85,-7.15 -3.15,-7.15 -3.15,-8.6
  region: -2.35,-8.6 -2.35,-7.15 -2.65,-7.15 -2.65,-8.6
  region: -1.85,-8.6 -1.85,-7.15 -2.15,-7.15 -2.15,-8.6
  region: -1.35,-8.6 -1.35,-7.15 -1.65,-7.15 -1.65,-8.6
  region: -0.85,-8.6 -0.85,-7.15 -1.15,-7.15 -1.15,-8.6
  region: -0.35,-8.6 -0.35,-7.15 -0.65,-7.15 -0.65,-8.6
  region: 0.15,-8.6 0.15,-7.15 -0.15,-7.15 -0.15,-8.6
  region: 0.65,-8.6 0.65,-7.15 0.35,-7.15 0.35,-8.6
  region: 1.15,-8.6 1.15,-7.15 0.85,-7.15 0.85,-8.6
  region: 1.65,-8.6 1.65,-7.15 1.35,-7.15 1.35,-8.6
  region: 2.15,-8.6 2.15,-7.15 1.85,-7.15 1.85,-8.6
  region: 2.65,-8.6 2.65,-7.15 2.35,-7.15 2.35,-8.6
  region: 3.15,-8.6 3.15,-7.15 2.85,-7.15 2.85,-8.6
  region: 3.65,-8.6 3.65,-7.15 3.35,-7.15 3.35,-8.6
  region: 4.15,-8.6 4.15,-7.15 3.85,-7.15 3.85,-8.6
  region: 4.65,-8.6 4.65,-7.15 4.35,-7.15 4.35,-8.6
  region: 5.15,-8.6 5.15,-7.15 4.85,-7.15 4.85,-8.6
  region: 5.65,-8.6 5.65,-7.15 5.35,-7.15 5.35,-8.6
  region: 6.15,-8.6 6.15,-7.15 5.85,-7.15 5.85,-8.6
  region: 8.6,-5.85 7.15,-5.85 7.15,-6.15 8.6,-6.15
  region: 8.6,-5.35 7.15,-5.35 7.15,-5.65 8.6,-5.65
  region: 8.6,-4.85 7.15,-4.85 7.15,-5.15 8.6,-5.15
  region: 8.6,-4.35 7.15,-4.35 7.15,-4.65 8.6,-4.65
  region: 8.6,-3.85 7.15,-3.85 7.15,-4.15 8.6,-4.15
  region: 8.6,-3.35 7.15,-3.35 7.15,-3.65 8.6,-3.65
  region: 8.6,-2.85 7.15,-2.85 7.15,-3.15 8.6,-3.15
  region: 8.6,-2.35 7.15,-2.35 7.15,-2.65 8.6,-2.65
  region: 8.6,-1.85 7.15,-1.85 7.15,-2.15 8.6,-2.15
  region: 8.6,-1.35 7.15,-1.35 7.15,-1.65 8.6,-1.65
  region: 8.6,-0.85 7.15,-0.85 7.15,-1.15 8.6,-1.15
  region: 8.6,-0.35 7.15,-0.35 7.15,-0.65 8.6,-0.65
  region: 8.6,0.15 7.15,0.15 7.15,-0.15 8.6,-0.15
  region: 8.6,0.65 7.15,0.65 7.15,0.35 8.6,0.35
  region: 8.6,1.15 7.15,1.15 7.15,0.85 8.6,0.85
  region: 8.6,1.65 7.15,1.65 7.15,1.35 8.6,1.35
  region: 8.6,2.15 7.15,2.15 7.15,1.85 8.6,1.85
  region: 8.6,2.65 7.15,2.65 7.15,2.35 8.6,2.35
  region: 8.6,3.15 7.15,3.15 7.15,2.85 8.6,2.85
  region: 8.6,3.65 7.15,3.65 7.15,3.35 8.6,3.35
  region: 8.6,4.15 7.15,4.15 7.15,3.85 8.6,3.85
  region: 8.6,4.65 7.15,4.65 7.15,4.35 8.6,4.35
  region: 8.6,5.15 7.15,5.15 7.15,4.85 8.6,4.85
  region: 8.6,5.65 7.15,5.65 7.15,5.35 8.6,5.35
  region: 8.6,6.15 7.15,6.15 7.15,5.85 8.6,5.85
  region: 5.85,8.6 5.85,7.15 6.15,7.15 6.15,8.6
  region: 5.35,8.6 5.35,7.15 5.65,7.15 5.65,8.6
  region: 4.85,8.6 4.85,7.15 5.15,7.15 5.15,8.6
  region: 4.35,8.6 4.35,7.15 4.65,7.15 4.65,8.6
  region: 3.85,8.6 3.85,7.15 4.15,7.15 4.15,8.6
  region: 3.35,8.6 3.35,7.15 3.65,7.15 3.65,8.6
  region: 2.85,8.6 2.85,7.15 3.15,7.15 3.15,8.6
  region: 2.35,8.6 2.35,7.15 2.65,7.15 2.65,8.6
  region: 1.85,8.6 1.85,7.15 2.15,7.15 2.15,8.6
  region: 1.35,8.6 1.35,7.15 1.65,7.15 1.65,8.6
  region: 0.85,8.6 0.85,7.15 1.15,7.15 1.15,8.6
  region: 0.35,8.6 0.35,7.15 0.65,7.15 0.65,8.6
  region: -0.15,8.6 -0.15,7.15 0.15,7.15 0.15,8.6
  region: -0.65,8.6 -0.65,7.15 -0.35,7.15 -0.35,8.6
  region: -1.15,8.6 -1.15,7.15 -0.85,7.15 -0.85,8.6
  region: -1.65,8.6 -1.65,7.15 -1.35,7.15 -1.35,8.6
  region: -2.15,8.6 -2.15,7.15 -1.85,7.15 -1.85,8.6
  region: -2.65,8.6 -2.65,7.15 -2.35,7.15 -2.35,8.6
  region: -3.15,8.6 -3.15,7.15 -2.85,7.15 -2.85,8.6
  region: -3.65,8.6 -3.65,7.15 -3.35,7.15 -3.35,8.6
  region: -4.15,8.6 -4.15,7.15 -3.85,7.15 -3.85,8.6
  region: -4.65,8.6 -4.65,7.15 -4.35,7.15 -4.35,8.6
  region: -5.15,8.6 -5.15,7.15 -4.85,7.15 -4.85,8.6
  region: -5.65,8.6 -5.65,7.15 -5.35,7.15 -5.35,8.6
  region: -6.15,8.6 -6.15,7.15 -5.85,7.15 -5.85,8.6
Top Solder:
  rectangle: -8.675,5.8 -7.075,6.2
  rectangle: -8.675,5.3 -7.075,5.7
  rectangle: -8.675,4.8 -7.075,5.2
  rectangle: -8.675,4.3 -7.075,4.7
  rectangle: -8.675,3.8 -7.075,4.2
  rectangle: -8.675,3.3 -7.075,3.7
  rectangle: -8.675,2.8 -7.075,3.2
  rectangle: -8.675,2.3 -7.075,2.7
  rectangle: -8.675,1.8 -7.075,2.2
  rectangle: -8.675,1.3 -7.075,1.7
  rectangle: -8.675,0.8 -7.075,1.2
  rectangle: -8.675,0.3 -7.075,0.7
  rectangle: -8.675,-0.2 -7.075,0.2
  rectangle: -8.675,-0.7 -7.075,-0.3
  rectangle: -8.675,-1.2 -7.075,-0.8
  rectangle: -8.675,-1.7 -7.075,-1.3
  rectangle: -8.675,-2.2 -7.075,-1.8
  rectangle: -8.675,-2.7 -7.075,-2.3
  rectangle: -8.675,-3.2 -7.075,-2.8
  rectangle: -8.675,-3.7 -7.075,-3.3
  rectangle: -8.675,-4.2 -7.075,-3.8
  rectangle: -8.675,-4.7 -7.075,-4.3
  rectangle: -8.675,-5.2 -7.075,-4.8
  rectangle: -8.675,-5.7 -7.075,-5.3
  rectangle: -8.675,-6.2 -7.075,-5.8
  region: -5.8,-8.675 -5.8,-7.075 -6.2,-7.075 -6.2,-8.675
  region: -5.3,-8.675 -5.3,-7.075 -5.7,-7.075 -5.7,-8.675
  region: -4.8,-8.675 -4.8,-7.075 -5.2,-7.075 -5.2,-8.675
  region: -4.3,-8.675 -4.3,-7.075 -4.7,-7.075 -4.7,-8.675
  region: -3.8,-8.675 -3.8,-7.075 -4.2,-7.075 -4.2,-8.675
  region: -3.3,-8.675 -3.3,-7.075 -3.7,-7.075 -3.7,-8.675
  region: -2.8,-8.675 -2.8,-7.075 -3.2,-7.075 -3.2,-8.675
  region: -2.3,-8.675 -2.3,-7.075 -2.7,-7.075 -2.7,-8.675
  region: -1.8,-8.675 -1.8,-7.075 -2.2,-7.075 -2.2,-8.675
  region: -1.3,-8.675 -1.3,-7.075 -1.7,-7.075 -1.7,-8.675
  region: -0.8,-8.675 -0.8,-7.075 -1.2,-7.075 -1.2,-8.675
  region: -0.3,-8.675 -0.3,-7.075 -0.7,-7.075 -0.7,-8.675
  region: 0.2,-8.675 0.2,-7.075 -0.2,-7.075 -0.2,-8.675
  region: 0.7,-8.675 0.7,-7.075 0.3,-7.075 0.3,-8.675
  region: 1.2,-8.675 1.2,-7.075 0.8,-7.075 0.8,-8.675
  region: 1.7,-8.675 1.7,-7.075 1.3,-7.075 1.3,-8.675
  region: 2.2,-8.675 2.2,-7.075 1.8,-7.075 1.8,-8.675
  region: 2.7,-8.675 2.7,-7.075 2.3,-7.075 2.3,-8.675
  region: 3.2,-8.675 3.2,-7.075 2.8,-7.075 2.8,-8.675
  region: 3.7,-8.675 3.7,-7.075 3.3,-7.075 3.3,-8.675
  region: 4.2,-8.675 4.2,-7.075 3.8,-7.075 3.8,-8.675
  region: 4.7,-8.675 4.7,-7.075 4.3,-7.075 4.3,-8.675
  region: 5.2,-8.675 5.2,-7.075 4.8,-7.075 4.8,-8.675
  region: 5.7,-8.675 5.7,-7.075 5.3,-7.075 5.3,-8.675
  region: 6.2,-8.675 6.2,-7.075 5.8,-7.075 5.8,-8.675
  region: 8.675,-5.8 7.075,-5.8 7.075,-6.2 8.675,-6.2
  region: 8.675,-5.3 7.075,-5.3 7.075,-5.7 8.675,-5.7
  region: 8.675,-4.8 7.075,-4.8 7.075,-5.2 8.675,-5.2
  region: 8.675,-4.3 7.075,-4.3 7.075,-4.7 8.675,-4.7
  region: 8.675,-3.8 7.075,-3.8 7.075,-4.2 8.675,-4.2
  region: 8.675,-3.3 7.075,-3.3 7.075,-3.7 8.675,-3.7
  region: 8.675,-2.8 7.075,-2.8 7.075,-3.2 8.675,-3.2
  region: 8.675,-2.3 7.075,-2.3 7.075,-2.7 8.675,-2.7
  region: 8.675,-1.8 7.075,-1.8 7.075,-2.2 8.675,-2.2
  region: 8.675,-1.3 7.075,-1.3 7.075,-1.7 8.675,-1.7
  region: 8.675,-0.8 7.075,-0.8 7.075,-1.2 8.675,-1.2
  region: 8.675,-0.3 7.075,-0.3 7.075,-0.7 8.675,-0.7
  region: 8.675,0.2 7.075,0.2 7.075,-0.2 8.675,-0.2
  region: 8.675,0.7 7.075,0.7 7.075,0.3 8.675,0.3
  region: 8.675,1.2 7.075,1.2 7.075,0.8 8.675,0.8
  region: 8.675,1.7 7.075,1.7 7.075,1.3 8.675,1.3
  region: 8.675,2.2 7.075,2.2 7.075,1.8 8.675,1.8
  region: 8.675,2.7 7.075,2.7 7.075,2.3 8.675,2.3
  region: 8.675,3.2 7.075,3.2 7.075,2.8 8.675,2.8
  region: 8.675,3.7 7.075,3.7 7.075,3.3 8.675,3.3
  region: 8.675,4.2 7.075,4.2 7.075,3.8 8.675,3.8
  region: 8.675,4.7 7.075,4.7 7.075,4.3 8.675,4.3
  region: 8.675,5.2 7.075,5.2 7.075,4.8 8.675,4.8
  region: 8.675,5.7 7.075,5.7 7.075,5.3 8.675,5.3
  region: 8.675,6.2 7.075,6.2 7.075,5.8 8.675,5.8
  region: 5.8,8.675 5.8,7.075 6.2,7.075 6.2,8.675
  region: 5.3,8.675 5.3,7.075 5.7,7.075 5.7,8.675
  region: 4.8,8.675 4.8,7.075 5.2,7.075 5.2,8.675
  region: 4.3,8.675 4.3,7.075 4.7,7.075 4.7,8.675
  region: 3.8,8.675 3.8,7.075 4.2,7.075 4.2,8.675
  region: 3.3,8.675 3.3,7.075 3.7,7.075 3.7,8.675
  region: 2.8,8.675 2.8,7.075 3.2,7.075 3.2,8.675
  region: 2.3,8.675 2.3,7.075 2.7,7.075 2.7,8.675
  region: 1.8,8.675 1.8,7.075 2.2,7.075 2.2,8.675
  region: 1.3,8.675 1.3,7.075 1.7,7.075 1.7,8.675
  region: 0.8,8.675 0.8,7.075 1.2,7.075 1.2,8.675
  region: 0.3,8.675 0.3,7.075 0.7,7.075 0.7,8.675
  region: -0.2,8.675 -0.2,7.075 0.2,7.075 0.2,8.675
  region: -0.7,8.675 -0.7,7.075 -0.3,7.075 -0.3,8.675
  region: -1.2,8.675 -1.2,7.075 -0.8,7.075 -0.8,8.675
  region: -1.7,8.675 -1.7,7.075 -1.3,7.075 -1.3,8.675
  region: -2.2,8.675 -2.2,7.075 -1.8,7.075 -1.8,8.675
  region: -2.7,8.675 -2.7,7.075 -2.3,7.075 -2.3,8.675
  region: -3.2,8.675 -3.2,7.075 -2.8,7.075 -2.8,8.675
  region: -3.7,8.675 -3.7,7.075 -3.3,7.075 -3.3,8.675
  region: -4.2,8.675 -4.2,7.075 -3.8,7.075 -3.8,8.675
  region: -4.7,8.675 -4.7,7.075 -4.3,7.075 -4.3,8.675
  region: -5.2,8.675 -5.2,7.075 -4.8,7.075 -4.8,8.675
  region: -5.7,8.675 -5.7,7.075 -5.3,7.075 -5.3,8.675
  region: -6.2,8.675 -6.2,7.075 -5.8,7.075 -5.8,8.675
Mechanical 16:
  circle w0.102: c3.59,-0.77 r0.5
  rectangle: -8.075,5.85 -7.025,6.15
  rectangle: -8.075,5.35 -7.025,5.65
  rectangle: -8.075,4.85 -7.025,5.15
  rectangle: -8.075,4.35 -7.025,4.65
  rectangle: -8.075,3.85 -7.025,4.15
  rectangle: -8.075,3.35 -7.025,3.65
  rectangle: -8.075,2.85 -7.025,3.15
  rectangle: -8.075,2.35 -7.025,2.65
  rectangle: -8.075,1.85 -7.025,2.15
  rectangle: -8.075,1.35 -7.025,1.65
  rectangle: -8.075,0.85 -7.025,1.15
  rectangle: -8.075,0.35 -7.025,0.65
  rectangle: -8.075,-0.15 -7.025,0.15
  rectangle: -8.075,-0.65 -7.025,-0.35
  rectangle: -8.075,-1.15 -7.025,-0.85
  rectangle: -8.075,-1.65 -7.025,-1.35
  rectangle: -8.075,-2.15 -7.025,-1.85
  rectangle: -8.075,-2.65 -7.025,-2.35
  rectangle: -8.075,-3.15 -7.025,-2.85
  rectangle: -8.075,-3.65 -7.025,-3.35
  rectangle: -8.075,-4.15 -7.025,-3.85
  rectangle: -8.075,-4.65 -7.025,-4.35
  rectangle: -8.075,-5.15 -7.025,-4.85
  rectangle: -8.075,-5.65 -7.025,-5.35
  rectangle: -8.075,-6.15 -7.025,-5.85
  rectangle: -6.175,-8.075 -5.875,-7.025
  rectangle: -5.675,-8.075 -5.375,-7.025
  rectangle: -5.175,-8.075 -4.875,-7.025
  rectangle: -4.675,-8.075 -4.375,-7.025
  rectangle: -4.175,-8.075 -3.875,-7.025
  rectangle: -3.675,-8.075 -3.375,-7.025
  rectangle: -3.175,-8.075 -2.875,-7.025
  rectangle: -2.675,-8.075 -2.375,-7.025
  rectangle: -2.175,-8.075 -1.875,-7.025
  rectangle: -1.675,-8.075 -1.375,-7.025
  rectangle: -1.175,-8.075 -0.875,-7.025
  rectangle: -0.675,-8.075 -0.375,-7.025
  rectangle: -0.175,-8.075 0.125,-7.025
  rectangle: 0.325,-8.075 0.625,-7.025
  rectangle: 0.825,-8.075 1.125,-7.025
  rectangle: 1.325,-8.075 1.625,-7.025
  rectangle: 1.825,-8.075 2.125,-7.025
  rectangle: 2.325,-8.075 2.625,-7.025
  rectangle: 2.825,-8.075 3.125,-7.025
  rectangle: 3.325,-8.075 3.625,-7.025
  rectangle: 3.825,-8.075 4.125,-7.025
  rectangle: 4.325,-8.075 4.625,-7.025
  rectangle: 4.825,-8.075 5.125,-7.025
  rectangle: 5.325,-8.075 5.625,-7.025
  rectangle: 5.825,-8.075 6.125,-7.025
  rectangle: 7.025,-6.15 8.075,-5.85
  rectangle: 7.025,-5.65 8.075,-5.35
  rectangle: 7.025,-5.15 8.075,-4.85
  rectangle: 7.025,-4.65 8.075,-4.35
  rectangle: 7.025,-4.15 8.075,-3.85
  rectangle: 7.025,-3.65 8.075,-3.35
  rectangle: 7.025,-3.15 8.075,-2.85
  rectangle: 7.025,-2.65 8.075,-2.35
  rectangle: 7.025,-2.15 8.075,-1.85
  rectangle: 7.025,-1.65 8.075,-1.35
  rectangle: 7.025,-1.15 8.075,-0.85
  rectangle: 7.025,-0.65 8.075,-0.35
  rectangle: 7.025,-0.15 8.075,0.15
  rectangle: 7.025,0.35 8.075,0.65
  rectangle: 7.025,0.85 8.075,1.15
  rectangle: 7.025,1.35 8.075,1.65
  rectangle: 7.025,1.85 8.075,2.15
  rectangle: 7.025,2.35 8.075,2.65
  rectangle: 7.025,2.85 8.075,3.15
  rectangle: 7.025,3.35 8.075,3.65
  rectangle: 7.025,3.85 8.075,4.15
  rectangle: 7.025,4.35 8.075,4.65
  rectangle: 7.025,4.85 8.075,5.15
  rectangle: 7.025,5.35 8.075,5.65
  rectangle: 7.025,5.85 8.075,6.15
  rectangle: 5.85,7.025 6.15,8.075
  rectangle: 5.35,7.025 5.65,8.075
  rectangle: 4.85,7.025 5.15,8.075
  rectangle: 4.35,7.025 4.65,8.075
  rectangle: 3.85,7.025 4.15,8.075
  rectangle: 3.35,7.025 3.65,8.075
  rectangle: 2.85,7.025 3.15,8.075
  rectangle: 2.35,7.025 2.65,8.075
  rectangle: 1.85,7.025 2.15,8.075
  rectangle: 1.35,7.025 1.65,8.075
  rectangle: 0.85,7.025 1.15,8.075
  rectangle: 0.35,7.025 0.65,8.075
  rectangle: -0.15,7.025 0.15,8.075
  rectangle: -0.65,7.025 -0.35,8.075
  rectangle: -1.15,7.025 -0.85,8.075
  rectangle: -1.65,7.025 -1.35,8.075
  rectangle: -2.15,7.025 -1.85,8.075
  rectangle: -2.65,7.025 -2.35,8.075
  rectangle: -3.15,7.025 -2.85,8.075
  rectangle: -3.65,7.025 -3.35,8.075
  rectangle: -4.15,7.025 -3.85,8.075
  rectangle: -4.65,7.025 -4.35,8.075
  rectangle: -5.15,7.025 -4.85,8.075
  rectangle: -5.65,7.025 -5.35,8.075
  rectangle: -6.15,7.025 -5.85,8.075
  region: 0,0 0.254,0 0.254,0.254 0,0.254
  region: 0,0 0.254,0 0.254,0.254 0,0.254
  region: 0,0 0.254,0 0.254,0.254 0,0.254
  region: 0,0 0.254,0 0.254,0.254 0,0.254
  region: 0,0 0.254,0 0.254,0.254 0,0.254
  region: 0,0 0.254,0 0.254,0.254 0,0.254
  lines w0.102: -0.01,1.33 cw(c-0.01,0.93) 0.39,0.93
  text "R" at 3.39,-1.07 h0.94

## MLF16 [mm]
pads (16):
  rrect50% 0.9x0.35 smd: 1(-1.75,0.975) 2(-1.75,0.325) 3(-1.75,-0.325) 4(-1.75,-0.975) 9(1.75,-0.975) 10(1.75,-0.325) 11(1.75,0.325) 12(1.75,0.975)
  rrect50% 0.35x0.9 smd: 5(-0.975,-1.75) 6(-0.325,-1.75) 7(0.325,-1.75) 8(0.975,-1.75) 13(0.975,1.75) 14(0.325,1.75) 15(-0.325,1.75) 16(-0.975,1.75)
Top Overlay:
  circle w0.254: c-0.9,0.9 r0.224
  lines w0.254: -1.875,-1.55 -1.55,-1.875 ; -1.875,1.55 -1.55,1.875 ; 1.55,-1.875 1.875,-1.55 ; 1.55,1.875 1.875,1.55
Mechanical 16:
  rectangle: -1.85,0.825 -1.4,1.125
  rectangle: -1.85,0.175 -1.4,0.475
  rectangle: -1.85,-0.475 -1.4,-0.175
  rectangle: -1.85,-1.125 -1.4,-0.825
  rectangle: -1.125,-1.85 -0.825,-1.4
  rectangle: -0.475,-1.85 -0.175,-1.4
  rectangle: 0.175,-1.85 0.475,-1.4
  rectangle: 0.825,-1.85 1.125,-1.4
  rectangle: 1.4,-1.125 1.85,-0.825
  rectangle: 1.4,-0.475 1.85,-0.175
  rectangle: 1.4,0.175 1.85,0.475
  rectangle: 1.4,0.825 1.85,1.125
  rectangle: 0.825,1.4 1.125,1.85
  rectangle: 0.175,1.4 0.475,1.85
  rectangle: -0.475,1.4 -0.175,1.85
  rectangle: -1.125,1.4 -0.825,1.85
  lines w0.254: -1.875,-1.55 -1.875,1.55 ; -1.55,-1.875 1.55,-1.875 ; -1.55,1.875 1.55,1.875 ; 1.875,-1.55 1.875,1.55